# Altium footprint library 8x8 SMT Pol Cap.PcbLib: 1 footprints
Each footprint in its own frame and in the unit in brackets; x right, y up, seen from the top. Pads: shape width x height; smd on the part's side, far side on the other; paste and mask are expansions set on the pad; w line width, h text height; cw(c..) or ccw(c..) is an arc to the next point about the centre after c.
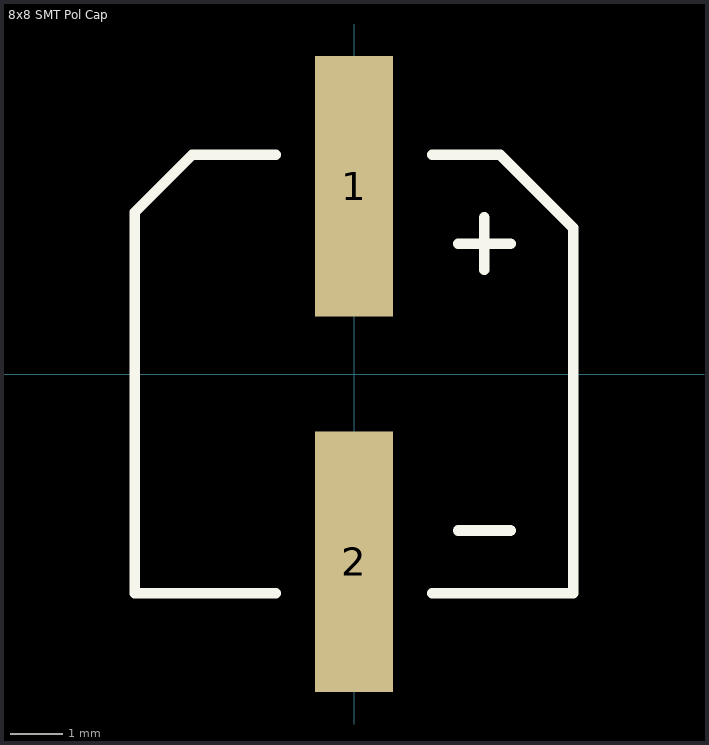
[diagram p0: the footprint, top view; thin cyan lines are the x and y axes]

## 8x8 SMT Pol Cap [mm]
pads (2):
  rect 1.5x5 smd: 1(0,3.6) 2(0,-3.6)
Top Overlay:
  lines w0.203: -1.5,-4.2 -4.2,-4.2 -4.2,3.1 -3.1,4.2 -1.5,4.2 ; 1.5,-4.2 4.2,-4.2 4.2,2.8 2.8,4.2 1.5,4.2 ; 2,-3 3,-3 ; 2,2.5 3,2.5 ; 2.5,2 2.5,3